# Altium footprint library STM32MISC.PcbLib: 40 footprints (part 3 of 3)
Each footprint in its own frame and in the unit in brackets; x right, y up, seen from the top. Pads: shape width x height; smd on the part's side, far side on the other; paste and mask are expansions set on the pad; w line width, h text height; cw(c..) or ccw(c..) is an arc to the next point about the centre after c.
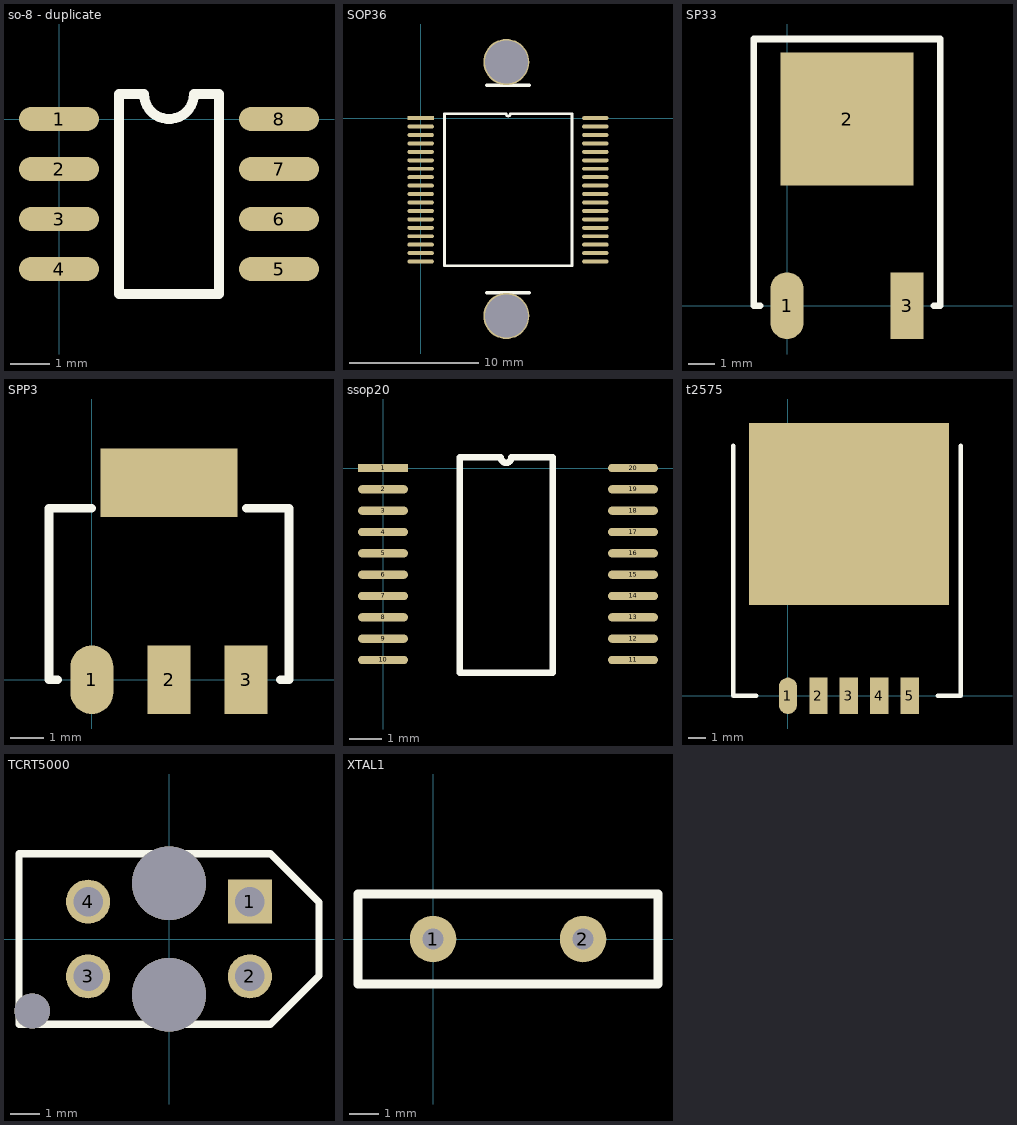
[diagram p2: the footprints below, top view; thin cyan lines are the x and y axes]

## so-8 - duplicate [mil]
pads (8):
  oval 80x24 smd: 1(0,0) 2(0,-50) 3(0,-100) 4(0,-150) 5(220,-150) 6(220,-100) 7(220,-50) 8(220,0)
TopOverlay:
  lines w10: 60,-175 60,25 85,25 ccw(c110,25) 135,25 160,25 160,-175 60,-175

## SOP36 [mil]
pads (38):
  rect 80x12 smd: 1(0,0)
  oval 80x12 smd: 2(0,-25.59) 3(0,-51.18) 4(0,-76.77) 5(0,-102.36) 6(0,-127.95) 7(0,-153.54) 8(0,-179.13) 9(0,-204.72) 10(0,-230.31) 11(0,-255.91) 12(0,-281.5) 13(0,-307.09) 14(0,-332.68) 15(0,-358.27) 16(0,-383.86) 17(0,-409.45) 18(0,-435.04) 19(530,-435.04) 20(530,-409.45) 21(530,-383.86) 22(530,-358.27) 23(530,-332.68) 24(530,-307.09) 25(530,-281.5) 26(530,-255.91) 27(530,-230.31) 28(530,-204.72) 29(530,-179.13) 30(530,-153.54) 31(530,-127.95) 32(530,-102.36) 33(530,-76.77) 34(530,-51.18) 35(530,-25.59) 36(530,0)
  round 140 hole 130: ""(260,-600) ""(260,170)
TopOverlay:
  lines w7.87: 72.24,-447.84 72.24,12.79 259.35,12.79 ccw(c265.75,12.79) 272.15,12.79 459.25,12.79 459.25,-447.84 72.24,-447.84
  lines w10: 200,-530 330,-530 ; 200,100 330,100

## SP33 [mil]
pads (3):
  oval 50x100 smd: 1(0,0)
  rect 200x200 smd: 2(90,280)
  rect 50x100 smd: 3(180,0)
TopOverlay:
  lines w10: -40,0 -50,0 -50,400 230,400 230,0 220,0

## SPP3 [mil]
pads (4):
  oval 50x80 smd: 1(0,0)
  rect 50x80 smd: 2(90,0) 3(180,0)
  rect 160x80 smd: ""(90,230)
TopOverlay:
  lines w10: -40,0 -50,0 -50,200 0,200 ; 180,200 230,200 230,0 220,0

## ssop20 [mil]
pads (20):
  rect 60x10 smd: 1(0,0)
  oval 60x10 smd: 2(0,-25.59) 3(0,-51.18) 4(0,-76.77) 5(0,-102.36) 6(0,-127.95) 7(0,-153.54) 8(0,-179.13) 9(0,-204.72) 10(0,-230.31) 11(300,-230.31) 12(300,-204.72) 13(300,-179.13) 14(300,-153.54) 15(300,-127.95) 16(300,-102.36) 17(300,-76.77) 18(300,-51.18) 19(300,-25.59) 20(300,0)
TopOverlay:
  lines w7.87: 92.09,-245.47 203.5,-245.47 203.5,12.79 154.19,12.79 cw(c147.79,12.79) 141.4,12.79 92.09,12.79 92.09,-245.47

## t2575 [mil]
pads (6):
  oval 40x80 smd: 1(0,0)
  rect 40x80 smd: 2(67,0) 3(134,0) 4(201,0) 5(268,0)
  rect 440x400 smd: ""(134,400)
TopOverlay:
  lines w10: -120,550 -120,0 -70,0 ; 330,0 380,0 380,550

## TCRT5000 [mm]
pads (4):
  rect 1.5x1.5 hole 1: 1(2.75,1.27)
  round 1.5 hole 1: 2(2.75,-1.27) 3(-2.75,-1.27) 4(-2.75,1.27)
via -4.65,-2.45 diameter 1.2 hole 1.2
via 0,-1.9 diameter 2.5 hole 2.5
via 0,1.9 diameter 2.5 hole 2.5
TopOverlay:
  lines w0.254: -5.1,-2.9 -5.1,2.9 3,2.9 3.45,2.9 5.1,1.25 5.1,-1.25 3.45,-2.9 3,-2.9 -5.1,-2.9

## XTAL1 [mil]
pads (2):
  round 62 hole 28: 1(0,0) 2(200,0)
TopOverlay:
  lines w12: -100,-60 -100,60 300,60 300,-60 -100,-60